# Altium footprint library TR8.PcbLib: 78 footprints (part 3 of 5)
Each footprint in its own frame and in the unit in brackets; x right, y up, seen from the top. Pads: shape width x height; smd on the part's side, far side on the other; paste and mask are expansions set on the pad; w line width, h text height; cw(c..) or ccw(c..) is an arc to the next point about the centre after c.
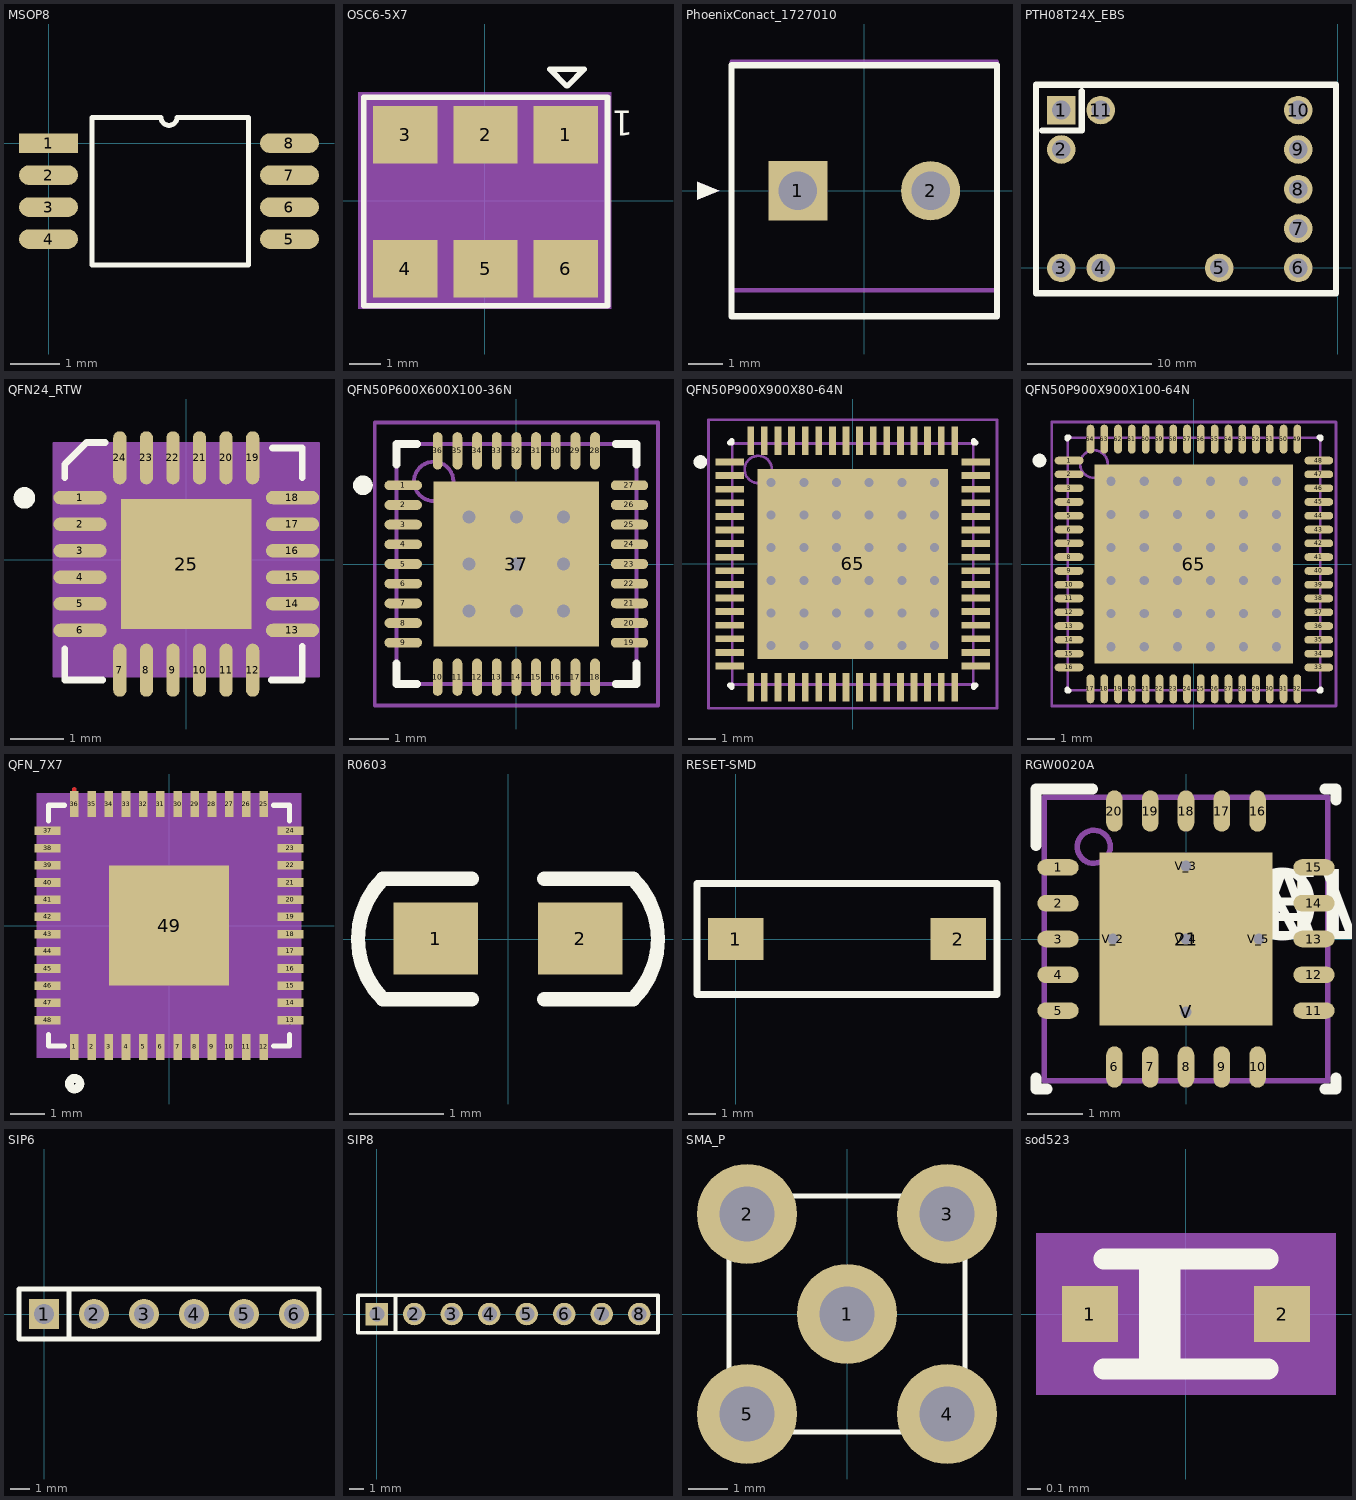
[diagram p2: the footprints below, top view; thin cyan lines are the x and y axes]

## MSOP8 [mm] "0.65PITCH,WIDTH5MM"
height 1
pads (8):
  rect 1.2x0.4 smd: 1(0,0)
  oval 1.2x0.4 smd: 2(0,-0.65) 3(0,-1.3) 4(0,-1.95) 5(4.9,-1.95) 6(4.9,-1.3) 7(4.9,-0.65) 8(4.9,0)
Top Overlay:
  lines w0.1: 0.885,-2.475 4.065,-2.475 4.065,0.525 2.612,0.525 cw(c2.45,0.525) 2.288,0.525 0.885,0.525 0.885,-2.475

## OSC6-5X7 [mil] "OSC6-5X7"
pads (6):
  rect 80x72 smd: 1(101,82) 2(1,82) 3(-99,82) 4(-99,-85) 5(1,-85) 6(101,-85)
Top Overlay:
  lines w7: -151,-131 153,-131 153,129 -151,129 -151,-131 ; 81,164 124,164 103,143 102,143 81,164
  text "1" at 185,112 h30.98
  text ".Designator" at -173,-98 h25
Mechanical 10:
  text "6" at 81,-85 h25
  text "5" at -19,-85 h25
  text "1" at 81,82 h25
  text "4" at -119,-85 h25
  text "3" at -119,82 h25
  text "2" at -19,82 h25
Mechanical 16:
  region: 158,-135 158,135 -158,135 -158,-135
  lines w7: -151,-131 153,-131 153,129 -151,129 -151,-131
3D body: height 150, standoff 0, extent -158,-135 158,135

## PhoenixConact_1727010 [mm]
height 8.5
pads (2):
  rect 1.7x1.7 hole 1.1: 1(-1.905,0)
  round 1.7 hole 1.1: 2(1.905,0)
Top Overlay:
  region: -4.8,-0.254 -4.8,0.254 -4.165,0
  lines w0.178: -3.81,-3.6 -3.81,0 -3.81,3.6 0,3.6 3.81,3.6 3.81,0 3.81,-3.6 0,-3.6 -3.81,-3.6
Mechanical 5:
  region: -4.8,-0.254 -4.8,0.254 -4.165,0
  lines w0.127: -3.81,-2.861 -3.81,-2.049 -3.81,-1.566 -3.81,1.487 -3.81,1.962 -3.81,3.7 3.81,3.7 3.81,1.962 3.81,1.487 3.81,-1.566 3.81,-2.049 3.81,-2.861 ; -3.81,-2.861 -3.81,-3.3 -3.81,-3.6 3.81,-3.6 3.81,-3.3 3.81,-2.861 ; -3.81,-2.861 3.81,-2.861
  text ".Designator" at -0.457,0.787 h1.02
3D body "1727010.stp": height 8.52, standoff -3.48, extent -3.81,-3.599 3.81,3.701

## PTH08T24X_EBS [mm] "EBS,Throught-Hole-Model"
pads (11):
  rect 2.3x2.3 hole 1.5: 1(-22.23,12.7)
  round 2.3 hole 1.5: 2(-22.23,9.53) 3(-22.23,0) 4(-19.06,0) 5(-9.53,0) 6(-3.17,0) 7(-3.17,3.17) 8(-3.17,6.34) 9(-3.17,9.53) 10(-3.17,12.7) 11(-19.06,12.7)
Top Overlay:
  lines w0.508: -23.754,11.049 -20.574,11.049 -20.574,14.224 ; -24.262,-2.032 -0.127,-2.032 -0.127,2.159 -0.127,10.541 -0.127,14.732 -24.262,14.732 -24.262,-2.032

## QFN24_RTW [mm] "QFN24_RTW"
pads (25):
  oval 1x0.25 smd: 1(-2,1.169) 2(-2,0.669) 3(-2,0.169) 4(-2,-0.331) 5(-2,-0.831) 6(-2,-1.331) 13(2,-1.331) 14(2,-0.831) 15(2,-0.331) 16(2,0.169) 17(2,0.669) 18(2,1.169)
  oval 0.25x1 smd: 7(-1.25,-2.081) 8(-0.75,-2.081) 9(-0.25,-2.081) 10(0.25,-2.081) 11(0.75,-2.081) 12(1.25,-2.081) 19(1.25,1.919) 20(0.75,1.919) 21(0.25,1.919) 22(-0.25,1.919) 23(-0.75,1.919) 24(-1.25,1.919)
  rect 2.45x2.45 smd: 25(0,-0.081)
Top Overlay:
  circle w0.203: c-3.048,1.164 r0.102
  lines w0.127: -2.286,-1.681 -2.286,-2.265 -1.575,-2.265 ; -2.286,1.545 -2.286,1.799 -1.88,2.205 -1.524,2.205 ; 1.6,-2.265 2.184,-2.265 2.184,-1.63 ; 1.626,2.104 2.184,2.104 2.184,1.545
Mechanical 10:
  text "3" at -2.254,0.169 h0.64
  text "7" at -1.504,-2.081 h0.64
  text "1" at -2.254,1.169 h0.64
  text "6" at -2.254,-1.331 h0.64
  text "25" at -0.508,-0.081 h0.64
  text "2" at -2.254,0.669 h0.64
  text "11" at 0.242,-2.081 h0.64
  text "5" at -2.254,-0.831 h0.64
  text "21" at -0.258,1.919 h0.64
  text "17" at 1.492,0.669 h0.64
  text "4" at -2.254,-0.331 h0.64
  text "9" at -0.504,-2.081 h0.64
  text "10" at -0.258,-2.081 h0.64
  text "8" at -1.004,-2.081 h0.64
  text "15" at 1.492,-0.331 h0.64
  text "14" at 1.492,-0.831 h0.64
  text "12" at 0.742,-2.081 h0.64
  text "13" at 1.492,-1.331 h0.64
  text "19" at 0.742,1.919 h0.64
  text "18" at 1.492,1.169 h0.64
  text "23" at -1.258,1.919 h0.64
  text "22" at -0.758,1.919 h0.64
  text "20" at 0.242,1.919 h0.64
  text "24" at -1.758,1.919 h0.64
  text "16" at 1.492,0.169 h0.64
Mechanical 11:
  lines w0.025: -2.5,-2.206 2.5,-2.206 2.5,2.205 -2.5,2.205 -2.5,-2.206
  text ".Designator" at -0.102,-0.03 h0.64
Mechanical 12:
  region: 2.5,-2.206 2.5,2.205 -2.5,2.205 -2.5,-2.206
3D body: height 3.81, standoff 0, extent -2.5,-2.206 2.5,2.205

## QFN50P600X600X100-36N [mm] "QFN, 36-Leads, Body 6.1x6.1mm (max), Pitch 0.50mm, IPC Medium Density"
height 1
pads (37):
  oval 0.95x0.25 smd: 1(-2.875,2) 2(-2.875,1.5) 3(-2.875,1) 4(-2.875,0.5) 5(-2.875,0) 6(-2.875,-0.5) 7(-2.875,-1) 8(-2.875,-1.5) 9(-2.875,-2) 19(2.875,-2) 20(2.875,-1.5) 21(2.875,-1) 22(2.875,-0.5) 23(2.875,0) 24(2.875,0.5) 25(2.875,1) 26(2.875,1.5) 27(2.875,2)
  oval 0.25x0.95 smd: 10(-2,-2.875) 11(-1.5,-2.875) 12(-1,-2.875) 13(-0.5,-2.875) 14(0,-2.875) 15(0.5,-2.875) 16(1,-2.875) 17(1.5,-2.875) 18(2,-2.875) 28(2,2.875) 29(1.5,2.875) 30(1,2.875) 31(0.5,2.875) 32(0,2.875) 33(-0.5,2.875) 34(-1,2.875) 35(-1.5,2.875) 36(-2,2.875)
  rect 4.2x4.2 smd: 37(0,0)
via 1.2,-1.2 diameter 0.66 hole 0.33
via 0,-1.2 diameter 0.66 hole 0.33
via -1.2,-1.2 diameter 0.66 hole 0.33
via 1.2,0 diameter 0.66 hole 0.33
via 0,0 diameter 0.66 hole 0.33
via -1.2,0 diameter 0.66 hole 0.33
via 1.2,1.2 diameter 0.66 hole 0.33
via 0,1.2 diameter 0.66 hole 0.33
via -1.2,1.2 diameter 0.66 hole 0.33
Top Overlay:
  circle w0.25: c-3.9,2 r0.125
  lines w0.2: -3.05,-2.525 -3.05,-3.05 -2.525,-3.05 ; -3.05,2.525 -3.05,3.05 -2.525,3.05 ; 2.525,-3.05 3.05,-3.05 3.05,-2.525 ; 2.525,3.05 3.05,3.05 3.05,2.525
Mechanical 13:
  circle w0.1: c-2.1,2.1 r0.5
  lines w0.1: -3.05,-3.05 3.05,-3.05 3.05,3.05 -3.05,3.05 -3.05,-3.05
Mechanical 15:
  lines w0.1: -0.5,0 0.5,0 ; 0,-0.5 0,0.5 ; -3.6,-3.6 3.6,-3.6 3.6,3.6 -3.6,3.6 -3.6,-3.6
3D body: height 1, standoff 0.01, extent -3.05,-3.05 3.05,3.05

## QFN50P900X900X80-64N [mm] "QFN, 64-Leads, Body 8.9x8.9mm (max), Pitch 0.50mm, IPC Medium Density"
height 0.8
pads (65):
  rect 1.05x0.25 smd: 1(-4.525,3.75) 2(-4.525,3.25) 3(-4.525,2.75) 4(-4.525,2.25) 5(-4.525,1.75) 6(-4.525,1.25) 7(-4.525,0.75) 8(-4.525,0.25) 9(-4.525,-0.25) 10(-4.525,-0.75) 11(-4.525,-1.25) 12(-4.525,-1.75) 13(-4.525,-2.25) 14(-4.525,-2.75) 15(-4.525,-3.25) 16(-4.525,-3.75) 33(4.525,-3.75) 34(4.525,-3.25) 35(4.525,-2.75) 36(4.525,-2.25) 37(4.525,-1.75) 38(4.525,-1.25) 39(4.525,-0.75) 40(4.525,-0.25) 41(4.525,0.25) 42(4.525,0.75) 43(4.525,1.25) 44(4.525,1.75) 45(4.525,2.25) 46(4.525,2.75) 47(4.525,3.25) 48(4.525,3.75)
  rect 0.25x1.05 smd: 17(-3.75,-4.525) 18(-3.25,-4.525) 19(-2.75,-4.525) 20(-2.25,-4.525) 21(-1.75,-4.525) 22(-1.25,-4.525) 23(-0.75,-4.525) 24(-0.25,-4.525) 25(0.25,-4.525) 26(0.75,-4.525) 27(1.25,-4.525) 28(1.75,-4.525) 29(2.25,-4.525) 30(2.75,-4.525) 31(3.25,-4.525) 32(3.75,-4.525) 49(3.75,4.525) 50(3.25,4.525) 51(2.75,4.525) 52(2.25,4.525) 53(1.75,4.525) 54(1.25,4.525) 55(0.75,4.525) 56(0.25,4.525) 57(-0.25,4.525) 58(-0.75,4.525) 59(-1.25,4.525) 60(-1.75,4.525) 61(-2.25,4.525) 62(-2.75,4.525) 63(-3.25,4.525) 64(-3.75,4.525)
  rect 7x7 smd: 65(0,0)
via 3,-3 diameter 0.66 hole 0.33
via 1.8,-3 diameter 0.66 hole 0.33
via 0.6,-3 diameter 0.66 hole 0.33
via -0.6,-3 diameter 0.66 hole 0.33
via -1.8,-3 diameter 0.66 hole 0.33
via -3,-3 diameter 0.66 hole 0.33
via 3,-1.8 diameter 0.66 hole 0.33
via 1.8,-1.8 diameter 0.66 hole 0.33
via 0.6,-1.8 diameter 0.66 hole 0.33
via -0.6,-1.8 diameter 0.66 hole 0.33
via -1.8,-1.8 diameter 0.66 hole 0.33
via -3,-1.8 diameter 0.66 hole 0.33
via 3,-0.6 diameter 0.66 hole 0.33
via 1.8,-0.6 diameter 0.66 hole 0.33
via 0.6,-0.6 diameter 0.66 hole 0.33
via -0.6,-0.6 diameter 0.66 hole 0.33
via -1.8,-0.6 diameter 0.66 hole 0.33
via -3,-0.6 diameter 0.66 hole 0.33
via 3,0.6 diameter 0.66 hole 0.33
via 1.8,0.6 diameter 0.66 hole 0.33
via 0.6,0.6 diameter 0.66 hole 0.33
via -0.6,0.6 diameter 0.66 hole 0.33
via -1.8,0.6 diameter 0.66 hole 0.33
via -3,0.6 diameter 0.66 hole 0.33
via 3,1.8 diameter 0.66 hole 0.33
via 1.8,1.8 diameter 0.66 hole 0.33
via 0.6,1.8 diameter 0.66 hole 0.33
via -0.6,1.8 diameter 0.66 hole 0.33
via -1.8,1.8 diameter 0.66 hole 0.33
via -3,1.8 diameter 0.66 hole 0.33
via 3,3 diameter 0.66 hole 0.33
via 1.8,3 diameter 0.66 hole 0.33
via 0.6,3 diameter 0.66 hole 0.33
via -0.6,3 diameter 0.66 hole 0.33
via -1.8,3 diameter 0.66 hole 0.33
via -3,3 diameter 0.66 hole 0.33
Top Overlay:
  circle w0.25: c-5.6,3.75 r0.125
  lines w0.2: -4.525,-4.45 -4.45,-4.45 -4.45,-4.525 ; -4.525,4.45 -4.45,4.45 -4.45,4.525 ; 4.45,-4.525 4.45,-4.45 4.525,-4.45 ; 4.45,4.525 4.45,4.45 4.525,4.45
Mechanical 13:
  circle w0.1: c-3.475,3.475 r0.5
  lines w0.1: -4.425,-4.425 4.425,-4.425 4.425,4.425 -4.425,4.425 -4.425,-4.425
Mechanical 15:
  lines w0.1: -0.5,0 0.5,0 ; 0,-0.5 0,0.5 ; -5.3,-5.3 5.3,-5.3 5.3,5.3 -5.3,5.3 -5.3,-5.3
3D body: height 0.8, standoff 0.01, extent -4.425,-4.425 4.425,4.425

## QFN50P900X900X100-64N [mm] "QFN, 64-Leads, Body 9.1x9.1mm (max), Pitch 0.50mm, IPC Medium Density"
height 1
pads (65):
  oval 1.05x0.28 smd: 1(-4.525,3.75) 2(-4.525,3.25) 3(-4.525,2.75) 4(-4.525,2.25) 5(-4.525,1.75) 6(-4.525,1.25) 7(-4.525,0.75) 8(-4.525,0.25) 9(-4.525,-0.25) 10(-4.525,-0.75) 11(-4.525,-1.25) 12(-4.525,-1.75) 13(-4.525,-2.25) 14(-4.525,-2.75) 15(-4.525,-3.25) 16(-4.525,-3.75) 33(4.525,-3.75) 34(4.525,-3.25) 35(4.525,-2.75) 36(4.525,-2.25) 37(4.525,-1.75) 38(4.525,-1.25) 39(4.525,-0.75) 40(4.525,-0.25) 41(4.525,0.25) 42(4.525,0.75) 43(4.525,1.25) 44(4.525,1.75) 45(4.525,2.25) 46(4.525,2.75) 47(4.525,3.25) 48(4.525,3.75)
  oval 0.28x1.05 smd: 17(-3.75,-4.525) 18(-3.25,-4.525) 19(-2.75,-4.525) 20(-2.25,-4.525) 21(-1.75,-4.525) 22(-1.25,-4.525) 23(-0.75,-4.525) 24(-0.25,-4.525) 25(0.25,-4.525) 26(0.75,-4.525) 27(1.25,-4.525) 28(1.75,-4.525) 29(2.25,-4.525) 30(2.75,-4.525) 31(3.25,-4.525) 32(3.75,-4.525) 49(3.75,4.525) 50(3.25,4.525) 51(2.75,4.525) 52(2.25,4.525) 53(1.75,4.525) 54(1.25,4.525) 55(0.75,4.525) 56(0.25,4.525) 57(-0.25,4.525) 58(-0.75,4.525) 59(-1.25,4.525) 60(-1.75,4.525) 61(-2.25,4.525) 62(-2.75,4.525) 63(-3.25,4.525) 64(-3.75,4.525)
  rect 7.2x7.2 smd: 65(0,0)
via -3,3 diameter 0.66 hole 0.33
via -1.8,3 diameter 0.66 hole 0.33
via -0.6,3 diameter 0.66 hole 0.33
via 0.6,3 diameter 0.66 hole 0.33
via 1.8,3 diameter 0.66 hole 0.33
via 3,3 diameter 0.66 hole 0.33
via -3,1.8 diameter 0.66 hole 0.33
via -1.8,1.8 diameter 0.66 hole 0.33
via -0.6,1.8 diameter 0.66 hole 0.33
via 0.6,1.8 diameter 0.66 hole 0.33
via 1.8,1.8 diameter 0.66 hole 0.33
via 3,1.8 diameter 0.66 hole 0.33
via -3,0.6 diameter 0.66 hole 0.33
via -1.8,0.6 diameter 0.66 hole 0.33
via -0.6,0.6 diameter 0.66 hole 0.33
via 0.6,0.6 diameter 0.66 hole 0.33
via 1.8,0.6 diameter 0.66 hole 0.33
via 3,0.6 diameter 0.66 hole 0.33
via -3,-0.6 diameter 0.66 hole 0.33
via -1.8,-0.6 diameter 0.66 hole 0.33
via -0.6,-0.6 diameter 0.66 hole 0.33
via 0.6,-0.6 diameter 0.66 hole 0.33
via 1.8,-0.6 diameter 0.66 hole 0.33
via 3,-0.6 diameter 0.66 hole 0.33
via -3,-1.8 diameter 0.66 hole 0.33
via -1.8,-1.8 diameter 0.66 hole 0.33
via -0.6,-1.8 diameter 0.66 hole 0.33
via 0.6,-1.8 diameter 0.66 hole 0.33
via 1.8,-1.8 diameter 0.66 hole 0.33
via 3,-1.8 diameter 0.66 hole 0.33
via -3,-3 diameter 0.66 hole 0.33
via -1.8,-3 diameter 0.66 hole 0.33
via -0.6,-3 diameter 0.66 hole 0.33
via 0.6,-3 diameter 0.66 hole 0.33
via 1.8,-3 diameter 0.66 hole 0.33
via 3,-3 diameter 0.66 hole 0.33
Top Overlay:
  circle w0.25: c-5.6,3.75 r0.125
  lines w0.2: -4.6,-4.54 -4.6,-4.6 -4.54,-4.6 ; -4.6,4.54 -4.6,4.6 -4.54,4.6 ; 4.54,-4.6 4.6,-4.6 4.6,-4.54 ; 4.54,4.6 4.6,4.6 4.6,4.54
Mechanical 13:
  circle w0.1: c-3.625,3.625 r0.5
  lines w0.1: -4.575,-4.575 -4.575,4.575 4.575,4.575 4.575,-4.575 -4.575,-4.575
Mechanical 15:
  lines w0.1: -0.5,0 0.5,0 ; 0,-0.5 0,0.5 ; -5.15,-5.15 -5.15,5.15 5.15,5.15 5.15,-5.15 -5.15,-5.15
3D body: height 1, standoff 0.01, extent -4.575,-4.575 4.575,4.575

## QFN_7X7 [mm] "QFN_7X7"
pads (49):
  rect 0.25x0.754 smd: 1(-2.75,-3.527) 2(-2.25,-3.527) 3(-1.75,-3.527) 4(-1.25,-3.527) 5(-0.75,-3.527) 6(-0.25,-3.527) 7(0.25,-3.527) 8(0.75,-3.527) 9(1.25,-3.527) 10(1.75,-3.527) 11(2.25,-3.527) 12(2.75,-3.527) 25(2.75,3.527) 26(2.25,3.527) 27(1.75,3.527) 28(1.25,3.527) 29(0.75,3.527) 30(0.25,3.527) 31(-0.25,3.527) 32(-0.75,3.527) 33(-1.25,3.527) 34(-1.75,3.527) 35(-2.25,3.527) 36(-2.75,3.527)
  rect 0.754x0.25 smd: 13(3.527,-2.75) 14(3.527,-2.25) 15(3.527,-1.75) 16(3.527,-1.25) 17(3.527,-0.75) 18(3.527,-0.25) 19(3.527,0.25) 20(3.527,0.75) 21(3.527,1.25) 22(3.527,1.75) 23(3.527,2.25) 24(3.527,2.75) 37(-3.527,2.75) 38(-3.527,2.25) 39(-3.527,1.75) 40(-3.527,1.25) 41(-3.527,0.75) 42(-3.527,0.25) 43(-3.527,-0.25) 44(-3.527,-0.75) 45(-3.527,-1.25) 46(-3.527,-1.75) 47(-3.527,-2.25) 48(-3.527,-2.75)
  rect 3.5x3.5 smd: 49(0,0)
Top Layer:
  lines w0.127: -2.75,3.527 -2.75,3.969
  lines w0.254: 3.527,-2.75 3.527,-2.75
Top Overlay:
  circle w0.254: c-2.743,-4.597 r0.154
  lines w0.152: -3.5,-3.175 -3.5,-3.5 -3.048,-3.5 ; -3.5,3.048 -3.5,3.5 -3.048,3.5 ; 3.048,-3.5 3.5,-3.5 3.5,-3.175 ; 3.048,3.5 3.5,3.5 3.5,3.048
Mechanical 10:
  text "8" at 0.75,-3.273 h0.64
  text "3" at -1.75,-3.273 h0.64
  text "17" at 3.527,-0.242 h0.64
  text "7" at 0.25,-3.273 h0.64
  text "2" at -2.25,-3.273 h0.64
  text "11" at 2.25,-3.019 h0.64
  text "6" at -0.25,-3.273 h0.64
  text "5" at -0.75,-3.273 h0.64
  text "10" at 1.75,-3.019 h0.64
  text "15" at 3.527,-1.242 h0.64
  text "13" at 3.527,-2.242 h0.64
  text "49" at 0,0.508 h0.64
  text "29" at 0.75,4.035 h0.64
  text "16" at 3.527,-0.742 h0.64
  text "40" at -3.527,1.758 h0.64
  text "34" at -1.75,4.035 h0.64
  text "24" at 3.527,3.258 h0.64
  text "19" at 3.527,0.758 h0.64
  text "20" at 3.527,1.258 h0.64
  text "22" at 3.527,2.258 h0.64
  text "25" at 2.75,4.035 h0.64
  text "35" at -2.25,4.035 h0.64
  text "31" at -0.25,4.035 h0.64
  text "27" at 1.75,4.035 h0.64
  text "36" at -2.75,4.035 h0.64
  text "37" at -3.527,3.258 h0.64
  text "42" at -3.527,0.758 h0.64
  text "44" at -3.527,-0.242 h0.64
  text "38" at -3.527,2.758 h0.64
  text "1" at -2.75,-3.273 h0.64
  text "12" at 2.75,-3.019 h0.64
  text "47" at -3.527,-1.742 h0.64
  text "41" at -3.527,1.258 h0.64
  text "46" at -3.527,-1.242 h0.64
  text "9" at 1.25,-3.273 h0.64
  text "4" at -1.25,-3.273 h0.64
  text "48" at -3.527,-2.242 h0.64
  text "45" at -3.527,-0.742 h0.64
  text "43" at -3.527,0.258 h0.64
  text "23" at 3.527,2.758 h0.64
  text "30" at 0.25,4.035 h0.64
  text "18" at 3.527,0.258 h0.64
  text "14" at 3.527,-1.742 h0.64
  text "26" at 2.25,4.035 h0.64
  text "39" at -3.527,2.258 h0.64
  text "33" at -1.25,4.035 h0.64
  text "28" at 1.25,4.035 h0.64
  text "32" at -0.75,4.035 h0.64
  text "21" at 3.527,1.758 h0.64
Mechanical 12:
  region: -3.841,-3.84 3.84,-3.84 3.84,3.84 -3.841,3.84
3D body: height 3.81, standoff 0, extent -3.841,-3.84 3.84,3.84

## R0603 [mil] "R0603"
pads (2):
  rect 35x30 smd: 1(-30,0.14) 2(30,0.14)
Top Overlay:
  lines w6: -15,-25 -52,-25 cw(c-27,0) -52,25 -15,25 ; 15,-25 52,-25 ccw(c27,0) 52,25 15,25
Mechanical 9:
  text "2" at 30,-9.86 h25
  text "1" at -30,-9.86 h25
Mechanical 10:
  text ".Designator" at -65,30 h25
Mechanical 14:
  text "R0603" at -60,-80 h32

## RESET-SMD [mm]
pads (2):
  rect 2x1.524 smd: 1(0,0) 2(8,0)
Top Overlay:
  lines w0.254: -1.397,-2 -1.397,2 9.398,2 9.398,-2 -1.397,-2

## RGW0020A [mm]
pads (26):
  oval 0.75x0.3 smd paste+0 mask+0.051: 1(-2.325,1.3) 2(-2.325,0.65) 3(-2.325,0) 4(-2.325,-0.65) 5(-2.325,-1.3) 11(2.325,-1.3) 12(2.325,-0.65) 13(2.325,0) 14(2.325,0.65) 15(2.325,1.3)
  oval 0.3x0.75 smd paste+0 mask+0.051: 6(-1.3,-2.325) 7(-0.65,-2.325) 8(0,-2.325) 9(0.65,-2.325) 10(1.3,-2.325) 16(1.3,2.325) 17(0.65,2.325) 18(0,2.325) 19(-0.65,2.325) 20(-1.3,2.325)
  rect 3.15x3.15 smd paste-1.562 mask+0.051: 21(0,0)
  round 0.5 / inner round 1.524 / far side round 0.5 hole 0.203 mask+0.051: V(0,-1.325) V_2(-1.325,0) V_3(0,1.325) V_4(0,0) V_5(1.325,0)
Top Overlay:
  lines w0.2: -2.725,-2.525 -2.725,-2.725 -2.525,-2.725 ; -2.725,1.7 -2.725,2.725 -1.7,2.725 ; 2.525,-2.725 2.725,-2.725 2.725,-2.525 ; 2.525,2.725 2.725,2.725 2.725,2.525
  text "DEV" at 0,0 h1.27
  text "PN" at 0,0 h1.27
  text "VAL" at 0,0 h1.27
  text "TOL" at 0,0 h1.27
Top Paste:
  region: 0.1,-0.1 0.1,-1.468 1.468,-1.468 1.468,-0.1
  region: -0.1,-1.468 -0.1,-0.1 -1.468,-0.1 -1.468,-1.468
  region: -0.1,0.1 -0.1,1.468 -1.468,1.468 -1.468,0.1
  region: 0.1,1.468 0.1,0.1 1.468,0.1 1.468,1.468
Mechanical 1:
  circle w0.1: c-1.675,1.675 r0.3
  lines w0.1: -2.575,-2.575 2.575,-2.575 2.575,2.575 -2.575,2.575 -2.575,-2.575

## SIP6 [mil] "pitch=2.54"
pads (6):
  rect 60x60 hole 40: 1(0,0)
  round 60 hole 40: 2(100,0) 3(200,0) 4(300,0) 5(400,0) 6(500,0)
Top Overlay:
  lines w10: 50,-50 50,50 ; -50,-50 550,-50 550,50 -50,50 -50,-50

## SIP8 [mil] "pitch=2.54"
pads (8):
  rect 60x60 hole 40: 1(0,0)
  round 60 hole 40: 2(100,0) 3(200,0) 4(300,0) 5(400,0) 6(500,0) 7(600,0) 8(700,0)
Top Overlay:
  lines w10: 50,-50 50,50 ; -50,-50 750,-50 750,50 -50,50 -50,-50

## SMA_P [mm] "SMA_P"
pads (5):
  round 2.54 hole 1.4: 1(0,0) 2(-2.54,2.54) 3(2.54,2.54) 4(2.54,-2.54) 5(-2.54,-2.54)
Top Overlay:
  lines w0.127: -3,-3 -3,3 3,3 3,-3 -3,-3
  text ".Designator" at -1.435,4.53 h0.71
Mechanical 9:
  text "1" at -0.254,0 h0.64
  text "3" at 2.286,2.54 h0.64
  text "2" at -2.794,2.54 h0.64
  text "4" at 2.286,-2.54 h0.64
  text "5" at -2.794,-2.54 h0.64

## sod523 [mil] "BAS16XV2T1G,Pin1-Negative"
height 39.37
pads (2):
  rect 16x16 smd: 1(-27.56,0) 2(27.56,0)
Top Overlay:
  lines w6: -23.62,-15.75 23.62,-15.75 ; -23.62,15.75 23.62,15.75 ; -10.56,-15.75 -10.56,15.75 ; -4.56,-15.75 -4.56,15.75
Mechanical 10:
  text "1" at -27.56,10 h25
  text "2" at 49,-2 h25
Mechanical 11:
  text ".Designator" at 0,0 h25
Mechanical 12:
  region: -43.06,-23.25 43.06,-23.25 43.06,23.25 -43.06,23.25
3D body: height 150, standoff 0, extent -43.06,-23.25 43.06,23.25